# EAGLE library part LPCXPRESSO_JTAG (library WSNlib)
JTAG pinout for LPCXpresso low-cost programmer
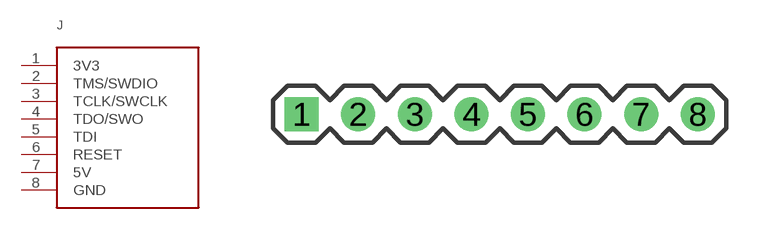
[diagram p7: symbol with the pads of 1X08; footprint 1X08]

Designator prefix J

## LPCXPRESSO_JTAG  [1X08]
1  3V3
2  TMS/SWDIO
3  TCLK/SWCLK
4  TDO/SWO
5  TDI
6  RESET
7  5V
8  GND

## Footprint 1X08 (pad centres in mm)
drill 1.016 square: 1 0,0
drill 1.016: 2 2.54,0; 3 5.08,0; 4 7.62,0; 5 10.16,0; 6 12.7,0; 7 15.24,0; 8 17.78,0